# Altium footprint library MokexKK254.PcbLib: 7 footprints
Each footprint in its own frame and in the unit in brackets; x right, y up, seen from the top. Pads: shape width x height; smd on the part's side, far side on the other; paste and mask are expansions set on the pad; w line width, h text height; cw(c..) or ccw(c..) is an arc to the next point about the centre after c.
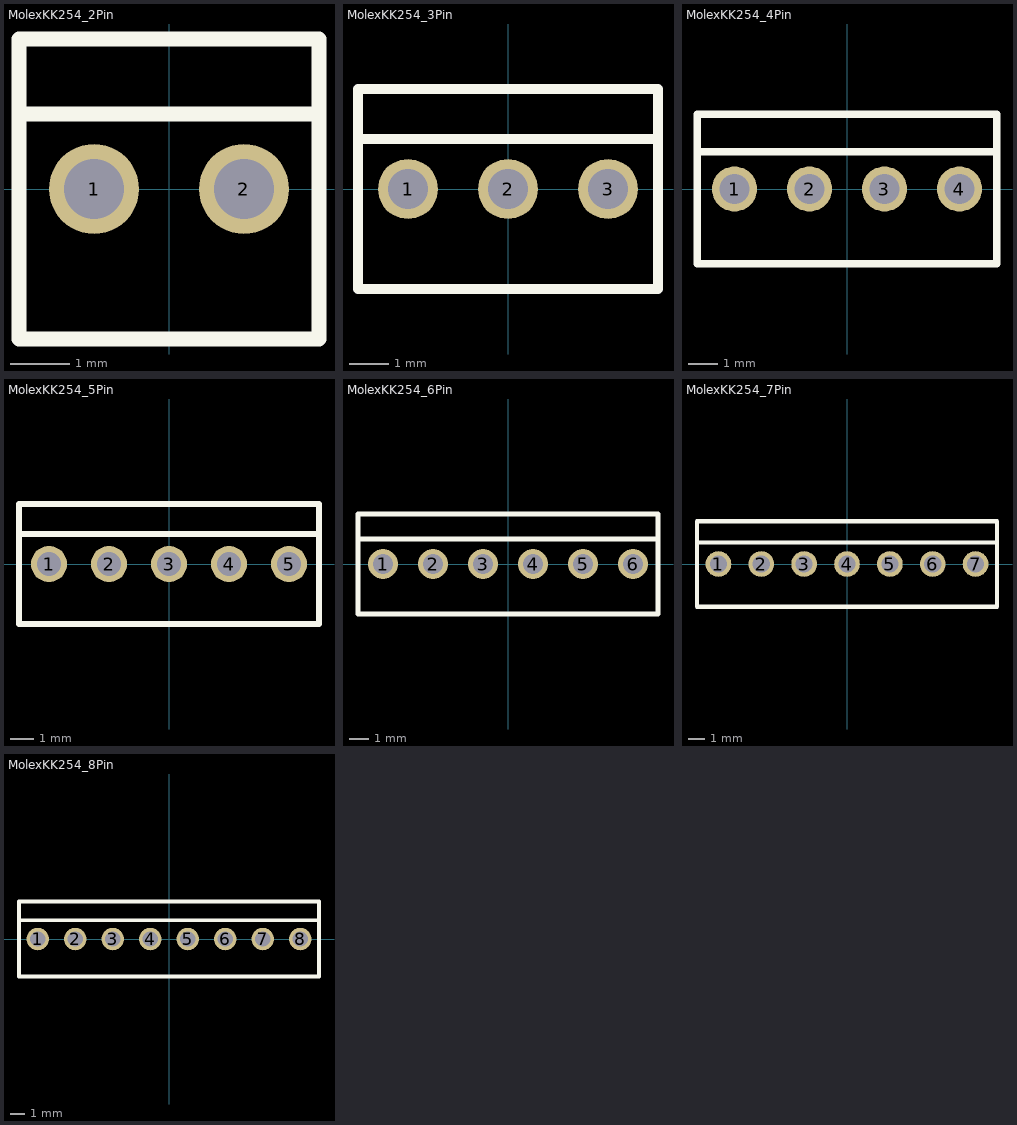
[diagram p0: the footprints below, top view; thin cyan lines are the x and y axes]

## MolexKK254_2Pin [mil]
pads (2):
  round 60 hole 40.16: 1(-50,0) 2(50,0)
Top Overlay:
  lines w10: 100,50 -100,50 ; -100,50 -100,0 -100,-100 100,-100 100,100 -100,100 -100,50

## MolexKK254_3Pin [mil]
pads (3):
  round 60 hole 40.16: 1(-100,0) 2(0,0) 3(100,0)
Top Overlay:
  lines w10: -150,50 150,50 ; -150,-100 -150,100 150,100 150,-100 -150,-100

## MolexKK254_4Pin [mil]
pads (4):
  round 60 hole 40.16: 1(-150,0) 2(-50,0) 3(50,0) 4(150,0)
Top Overlay:
  lines w10: -200,50 200,50 ; 200,50 200,-100 -200,-100 -200,100 200,100 200,50

## MolexKK254_5Pin [mil]
pads (5):
  round 60 hole 40.16: 1(-200,0) 2(-100,0) 3(0,0) 4(100,0) 5(200,0)
Top Overlay:
  lines w10: 250,50 -250,50 ; -250,50 -250,-100 250,-100 250,100 -250,100 -250,50

## MolexKK254_6Pin [mil]
pads (6):
  round 60 hole 40.16: 1(-250,0) 2(-150,0) 3(-50,0) 4(50,0) 5(150,0) 6(250,0)
Top Overlay:
  lines w10: 300,50 -300,50 ; -300,50 -300,-100 300,-100 300,100 -300,100 -300,50

## MolexKK254_7Pin [mil]
pads (7):
  round 60 hole 40.16: 1(-300,0) 2(-200,0) 3(-100,0) 4(0,0) 5(100,0) 6(200,0) 7(300,0)
Top Overlay:
  lines w10: 350,50 -350,50 ; -350,50 -350,-100 350,-100 350,100 -350,100 -350,50

## MolexKK254_8Pin [mil]
pads (8):
  round 60 hole 40.16: 1(-350,0) 2(-250,0) 3(-150,0) 4(-50,0) 5(50,0) 6(150,0) 7(250,0) 8(350,0)
Top Overlay:
  lines w10: 400,50 -400,50 ; -400,50 -400,-100 400,-100 400,100 -400,100 -400,50